# Altium footprint library TVS 5.5V MULTI DIODE.PcbLib: 1 footprints
Each footprint in its own frame and in the unit in brackets; x right, y up, seen from the top. Pads: shape width x height; smd on the part's side, far side on the other; paste and mask are expansions set on the pad; w line width, h text height; cw(c..) or ccw(c..) is an arc to the next point about the centre after c.
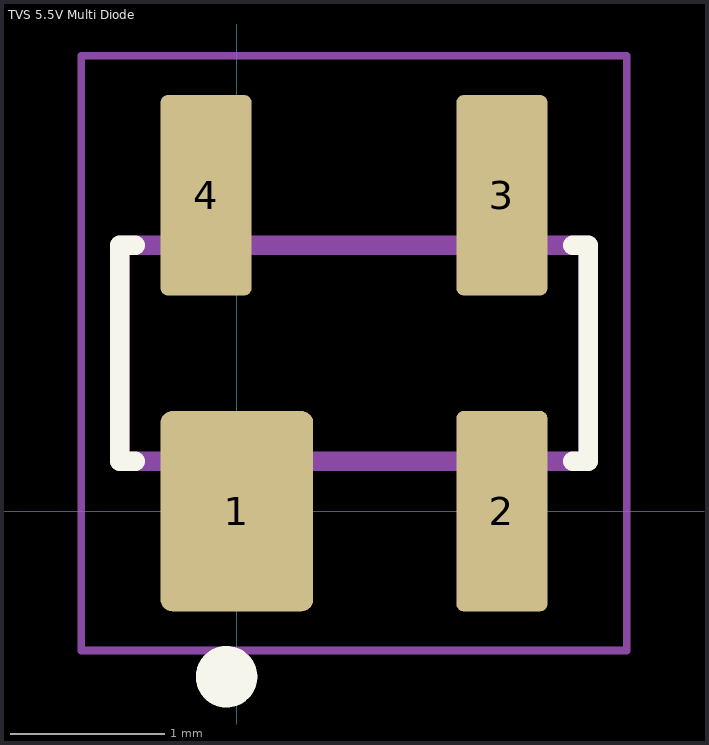
[diagram p0: the footprint, top view; thin cyan lines are the x and y axes]

## TVS 5.5V Multi Diode [mm]
pads (4):
  rrect15% 0.99x1.3 smd: 1(0,0)
  rrect15% 0.59x1.3 smd: 2(1.72,0) 3(1.72,2.05) 4(-0.2,2.05)
Top Overlay:
  circle w0.2: c-0.067,-1.075 r0.1
  lines w0.127: -0.66,0.325 -0.76,0.325 -0.76,1.725 -0.66,1.725 ; 2.18,0.325 2.28,0.325 2.28,1.725 2.18,1.725
Mechanical 13:
  lines w0.127: -0.76,0.325 2.28,0.325 2.28,1.725 -0.76,1.725 -0.76,0.325
Mechanical 15:
  lines w0.05: -1.01,-0.905 2.53,-0.905 2.53,2.955 -1.01,2.955 -1.01,-0.905
3D body "SP0503BAHTG--3DModel-STEP-56544.STEP": height 1.22, standoff 0, extent -0.7,-0.16 2.22,2.21